# Altium schematic symbol library connectors.SchLib: 74 symbols
Pins are listed as number, name and electrical type; pins without a type are passive.

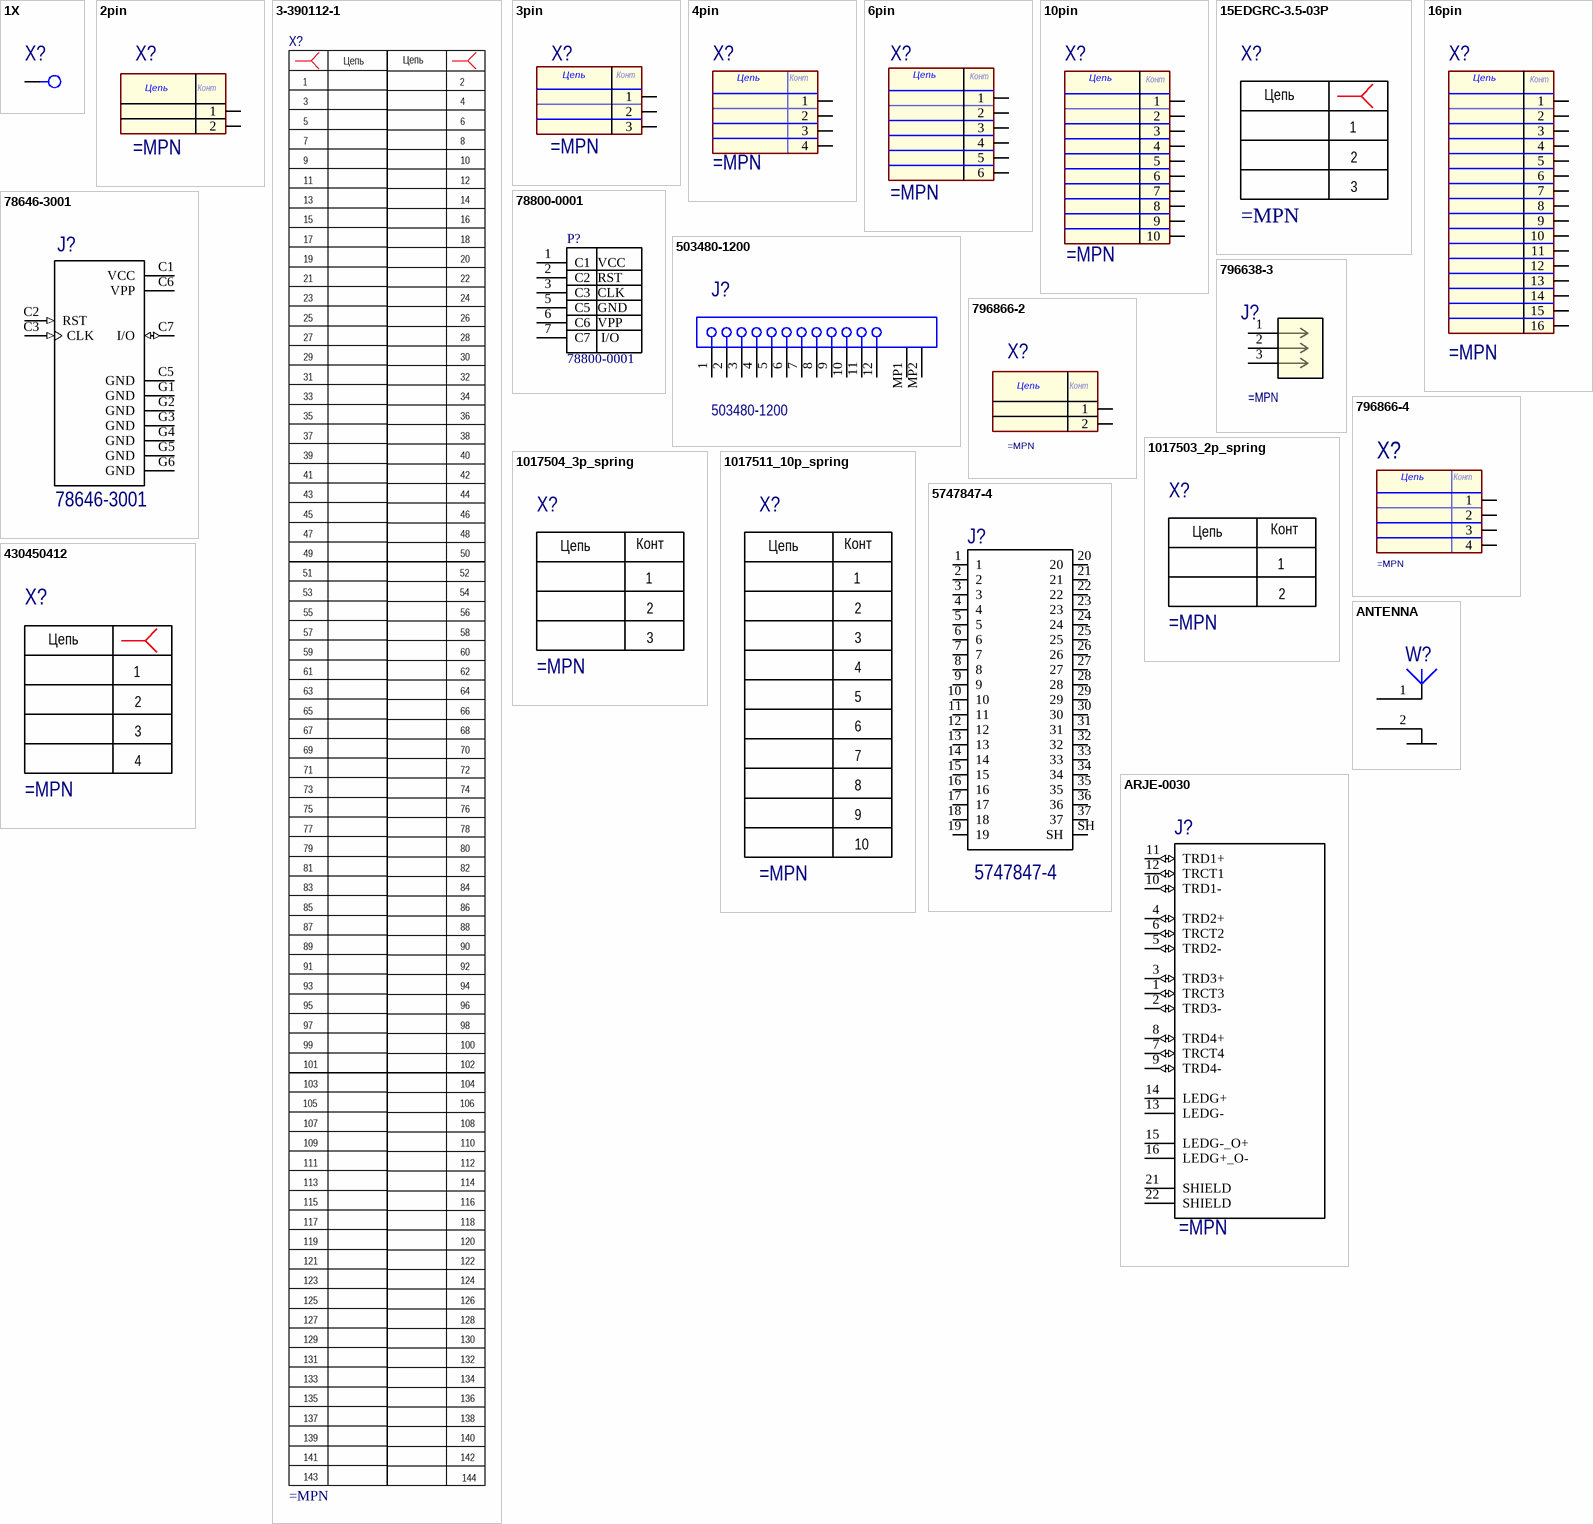
[diagram p0: symbols 1X to ARJE-0030]

## 1X
designator X?
pins: 1

## 2pin
designator X?
pins: 1, 2
1 alternate drawing of the same symbol
text: Цепь; Конт

## 3-390112-1
designator X?
pins: 1, 1, 1, 1, 1, 2 "1", 2 "1", 3 "1", 3 "1", 4 "1", 5 "1", 6 "1", 7 "1", 8 "1", 9 "1", 10 "1", 11 "1", 12 "1", 13 "1", 14 "1", 15 "1", 16 "1", 17 "1", 18 "1", 19 "1", 20 "1", 21 "1", 22 "1", 23 "1", 24 "1", 25 "1", 26 "1", 27 "1", 28 "1", 29 "1", 30 "1", 31 "1", 32 "1", 33 "1", 34 "1", 35 "1", 36 "1", 37 "1", 38 "1", 39 "1", 40 "1", 41 "1", 42 "1", 43 "1", 44 "1", 45 "1", 46 "1", 47 "1", 48 "1", 49 "1", 50 "1", 51 "1", 52 "1", 53 "1", 54 "1", 55 "1", 56 "1", 57 "1", 58 "1", 59 "1", 60 "1", 61 "1", 62 "1", 63 "1", 64 "1", 65 "1", 66 "1", 67 "1", 68 "1", 69 "1", 70 "1", 71 "1", 72 "1", 73 "1", 74 "1", 75 "1", 76 "1", 77 "1", 78 "1", 79 "1", 80 "1", 81 "1", 82 "1", 83 "1", 84 "1", 85 "1", 86 "1", 87 "1", 88 "1", 89 "1", 90 "1", 91 "1", 92 "1", 93 "1", 94 "1", 95 "1", 96 "1", 97 "1", 98 "1", 99 "1", 100 "1", 101 "1", 102 "1", 103 "1", 104 "1", 105 "1", 106 "1", 107 "1", 108 "1", 109 "1", 110 "1", 111 "1", 112 "1", 113 "1", 114 "1", 115 "1", 116 "1", 117 "1", 118 "1", 119 "1", 120 "1", 121 "1", 122 "1", 123 "1", 124 "1", 125 "1", 126 "1", 127 "1", 128 "1", 129 "1", 130 "1", 131 "1", 132 "1", 133 "1", 134 "1", 135 "1", 136 "1", 137 "1", 138 "1", 139 "1", 140 "1", 141 "1", 142 "1", 143 "1", 144 "1"
text: Цепь; 5 /; 6 /; 11 /; 12 /; 13 /; 14 /; 15 /; 16 /; 17 /; 18 /; 19 /; 20 /; 21 /; 22 /; 23 /; 24 /; 25 /; 26 /; 27 /; 28 /; 29 /; 30 /; 31 /; 32 /; 33 /; 34 /; 35 /; 36 /; 37 /; 38 /; 39 /; 40 /; 41 /; 42 /; 43 /; 44 /; 45 /; 46 /; 47 /; 48 /; 49 /; 50 /; 57 /; 58 /; 63 /; 64 /; 65 /; 66 /; 67 /; 68 /; 69 /; 70 /; 71 /; 72 /; 73 /; 74 /; 75 /; 76 /; 77 /; 78 /; 79 /; 80 /; 81 /; 82 /; 83 /; 84 /; 85 /; 86 /; 87 /; 88 /; 89 /; 90 /; 91 /; 92 /; 93 /; 94 /; 95 /; 96 /; 97 /; 98 /; 99 /; 100 /; 101 /; 102 /; 103 /; 104 /; 109 /; 110 /; 115 /; 116 /; 117 /; 118 /; 119 /; 120 /; 121 /; 122 /; 123 /; 124 /; 125 /; 126 /; 127 /; 128 /; 129 /; 130 /; 131 /; 132 /; 133 /; 134 /; 135 /; 136 /; 137 /; 138 /; 139 /; 140 /; 141 /; 142 /; 143 /; 144 /

## 3pin
designator X?
pins: 1, 2, 3
1 alternate drawing of the same symbol
text: Цепь; Конт

## 4pin
designator X?
pins: 1, 2, 3, 4
1 alternate drawing of the same symbol
text: Цепь; Конт

## 6pin
designator X?
pins: 1, 2, 3, 4, 5, 6
1 alternate drawing of the same symbol
text: Цепь; Конт

## 10pin
designator X?
pins: 1, 2, 3, 4, 5, 6, 7, 8, 9, 10
1 alternate drawing of the same symbol
text: Цепь; Конт

## 15EDGRC-3.5-03P
designator X?
pins: 1, 2 "1", 3 "1"
text: Цепь

## 16pin
designator X?
pins: 1, 2, 3, 4, 5, 6, 7, 8, 9, 10, 11, 12, 13, 14, 15, 16
1 alternate drawing of the same symbol
text: Цепь; Конт

## 78646-3001
designator J?
Conn Micro SIM Card SKT 6 POS 2.54mm Solder RA SMD 0.5A/Contact Embossed T/R
pins: C1 VCC (power), C2 RST (in), C3 CLK (in), C5 GND (power), C6 VPP (power), C7 I/O (io), G1 GND (power), G2 GND (power), G3 GND (power), G4 GND (power), G5 GND (power), G6 GND (power)

## 78800-0001
designator P?
1.40mm Height Hinged-style micro-SIM Card Socket without Detect Switch, Surface Mount, 6 Circuits, Halogen-Free, Lead...
pins: 1 C1  VCC, 2 C2  RST, 3 C3  CLK, 5 C5  GND, 6 C6  VPP, 7 C7   I/O

## 503480-1200
designator J?
0.5 mm Pitch Easy-On(TM) BackFlip(TM) Type FPC Connector, 1.0 mm Mated Height, Right Angle, SMT, Dual Contact, 12 Circuits, -40 to 85 degC, ELV and RoHS Compliant, Tape and Reel; ComponentLink1Description: Manufacturer URL; ComponentLink1URL: http://www.molex.com/molex/index.jsp; ComponentLink2Description: Datasheet; ComponentLink2URL: http://www.molex.com/webdocs/datasheets/pdf/en-us/5034801200_FFC_FPC_CONNECTORS.pdf; ComponentLink3Description: Package Specification; ComponentLink3URL: http://www.molex.com/pdm_docs/sd/5034801200_sd.pdf
pins: 1, 2, 3, 4, 5, 6, 7, 8, 9, 10, 11, 12, MP1, MP2

## 796638-3
designator J?
Imported
pins: 1, 2, 3

## 796866-2
designator X?
pins: 1, 2
1 alternate drawing of the same symbol
text: Цепь; Конт

## 796866-4
designator X?
pins: 1, 2, 3, 4
1 alternate drawing of the same symbol
text: Цепь; Конт

## 1017503_2p_spring
designator X?
pins: 1, 2 "1"
text: Цепь; Конт

## 1017504_3p_spring
designator X?
pins: 1, 2 "1", 3 "1"
text: Цепь; Конт

## 1017511_10p_spring
designator X?
pins: 1, 1, 1, 1, 2 "1", 2 "1", 2 "1", 2 "1", 3 "1", 3 "1", 3 "1", 3 "1"
text: Цепь; Конт; 4; 5; 6; 7; 8; 9; 10

## 5747847-4
designator J?
Conn D-Subminiature SKT 37 POS 2.76mm Solder RA Thru-Hole 37 Terminal 1 Port
pins: 1, 2, 3, 4, 5, 6, 7, 8, 9, 10, 11, 12, 13, 14, 15, 16, 17, 18, 19, 20, 21, 22, 23, 24, 25, 26, 27, 28, 29, 30, 31, 32, 33, 34, 35, 36, 37, SH

## 430450412
designator X?
pins: 1, 2 "1", 3 "1", 4 "1"
text: Цепь; 3 /

## ANTENNA
designator W?
pins: 1, 2

## ARJE-0030
designator J?
Conn RJ-45 F 8 POS Solder RA Thru-Hole 18 Terminal 1 Port Tray
pins: 1 TRCT3 (io), 2 TRD3- (io), 3 TRD3+ (io), 4 TRD2+ (io), 5 TRD2- (io), 6 TRCT2 (io), 7 TRCT4 (io), 8 TRD4+ (io), 9 TRD4- (io), 10 TRD1- (io), 11 TRD1+ (io), 12 TRCT1 (io), 13 LEDG-, 14 LEDG+, 15 LEDG-_O+, 16 LEDG+_O-, 21 SHIELD, 22 SHIELD

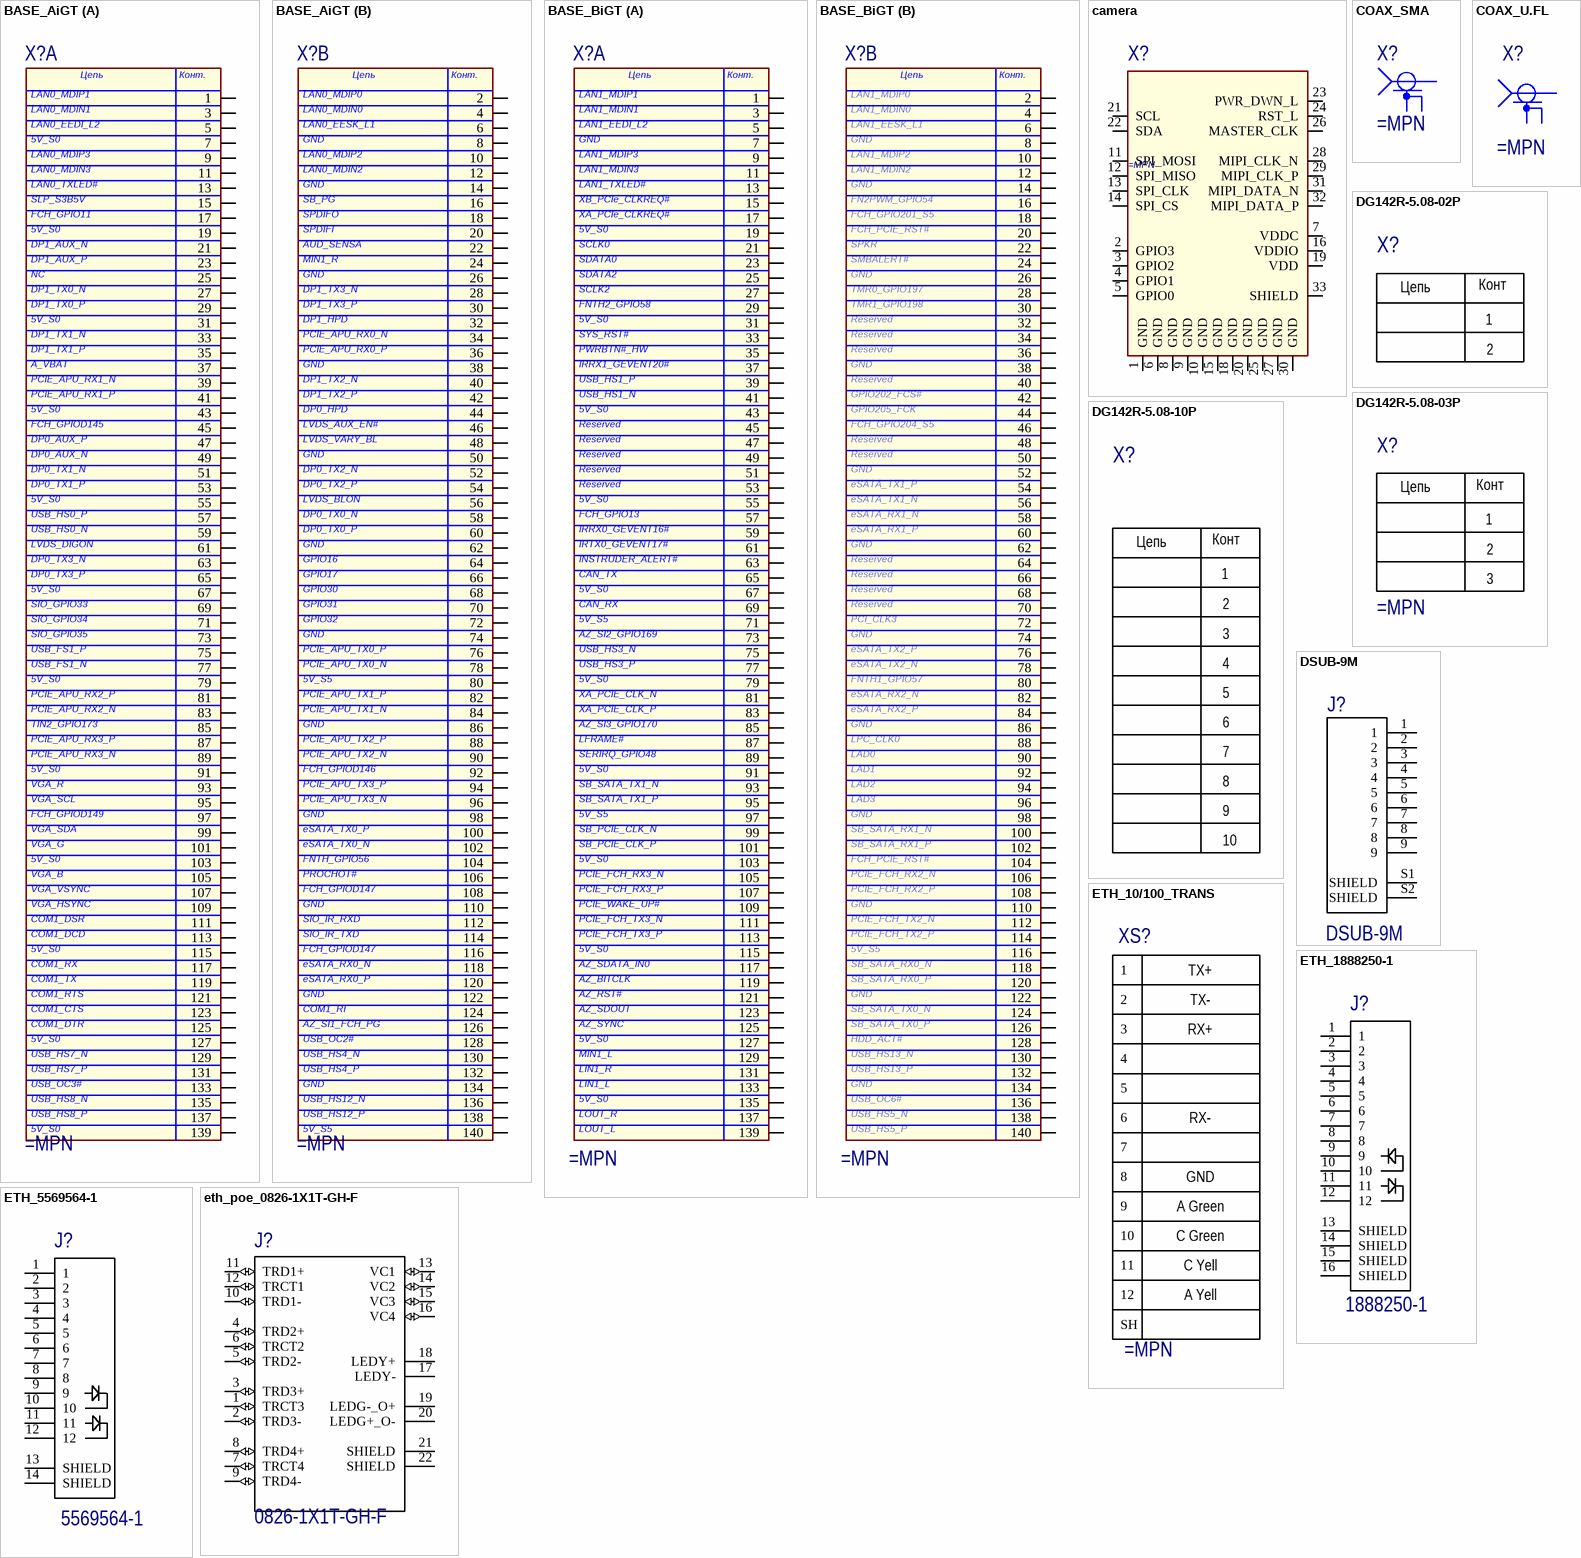
[diagram p1: symbols BASE_AiGT to eth_poe_0826-1X1T-GH-F]

## BASE_AiGT
designator X?
part A pins: 1, 3, 5, 7, 9, 11, 13, 15, 17, 19, 21, 23, 25, 27, 29, 31, 33, 35, 37, 39, 41, 43, 45, 47, 49, 51, 53, 55, 57, 59, 61, 63, 65, 67, 69, 71, 73, 75, 77, 79, 81, 83, 85, 87, 89, 91, 93, 95, 97, 99, 101, 103, 105, 107, 109, 111, 113, 115, 117, 119, 121, 123, 125, 127, 129, 131, 133, 135, 137, 139
part B pins: 2, 4, 6, 8, 10, 12, 14, 16, 18, 20, 22, 24, 26, 28, 30, 32, 34, 36, 38, 40, 42, 44, 46, 48, 50, 52, 54, 56, 58, 60, 62, 64, 66, 68, 70, 72, 74, 76, 78, 80, 82, 84, 86, 88, 90, 92, 94, 96, 98, 100, 102, 104, 106, 108, 110, 112, 114, 116, 118, 120, 122, 124, 126, 128, 130, 132, 134, 136, 138, 140
part A text: Цепь; Конт.; LAN0_MDIP1; LAN0_MDIN1; LAN0_EEDI_L2; 5V_S0; LAN0_MDIP3; LAN0_MDIN3; LAN0_TXLED#; SLP_S3B5V; FCH_GPIO11; DP1_AUX_N; DP1_AUX_P; NC; DP1_TX0_N; DP1_TX0_P; DP1_TX1_N; DP1_TX1_P; A_VBAT; PCIE_APU_RX1_N; PCIE_APU_RX1_P; FCH_GPIOD145; DP0_AUX_P; DP0_AUX_N; DP0_TX1_N; DP0_TX1_P; USB_HS0_P; USB_HS0_N; LVDS_DIGON; DP0_TX3_N; DP0_TX3_P; SIO_GPIO33; SIO_GPIO34; SIO_GPIO35; USB_FS1_P; USB_FS1_N; PCIE_APU_RX2_P; PCIE_APU_RX2_N; TIN2_GPIO173; PCIE_APU_RX3_P; PCIE_APU_RX3_N; VGA_R; VGA_SCL; FCH_GPIOD149; VGA_SDA; VGA_G; VGA_B; VGA_VSYNC; VGA_HSYNC; COM1_DSR; COM1_DCD; COM1_RX; COM1_TX; COM1_RTS; COM1_CTS; COM1_DTR; USB_HS7_N; USB_HS7_P; USB_OC3#; USB_HS8_N; USB_HS8_P
part B text: Цепь; Конт.; LAN0_MDIP0; LAN0_MDIN0; LAN0_EESK_L1; GND; LAN0_MDIP2; LAN0_MDIN2; SB_PG; SPDIFO; SPDIFI; AUD_SENSA; MIN1_R; DP1_TX3_N; DP1_TX3_P; DP1_HPD; PCIE_APU_RX0_N; PCIE_APU_RX0_P; DP1_TX2_N; DP1_TX2_P; DP0_HPD; LVDS_AUX_EN#; LVDS_VARY_BL; DP0_TX2_N; DP0_TX2_P; LVDS_BLON; DP0_TX0_N; DP0_TX0_P; GPIO16; GPIO17; GPIO30; GPIO31; GPIO32; PCIE_APU_TX0_P; PCIE_APU_TX0_N; 5V_S5; PCIE_APU_TX1_P; PCIE_APU_TX1_N; PCIE_APU_TX2_P; PCIE_APU_TX2_N; FCH_GPIOD146; PCIE_APU_TX3_P; PCIE_APU_TX3_N; eSATA_TX0_P; eSATA_TX0_N; FNTH_GPIO56; PROCHOT#; FCH_GPIOD147; SIO_IR_RXD; SIO_IR_TXD; eSATA_RX0_N; eSATA_RX0_P; COM1_RI; AZ_SI1_FCH_PG; USB_OC2#; USB_HS4_N; USB_HS4_P; USB_HS12_N; USB_HS12_P

## BASE_BiGT
designator X?
part A pins: 1, 3, 5, 7, 9, 11, 13, 15, 17, 19, 21, 23, 25, 27, 29, 31, 33, 35, 37, 39, 41, 43, 45, 47, 49, 51, 53, 55, 57, 59, 61, 63, 65, 67, 69, 71, 73, 75, 77, 79, 81, 83, 85, 87, 89, 91, 93, 95, 97, 99, 101, 103, 105, 107, 109, 111, 113, 115, 117, 119, 121, 123, 125, 127, 129, 131, 133, 135, 137, 139
part B pins: 2, 4, 6, 8, 10, 12, 14, 16, 18, 20, 22, 24, 26, 28, 30, 32, 34, 36, 38, 40, 42, 44, 46, 48, 50, 52, 54, 56, 58, 60, 62, 64, 66, 68, 70, 72, 74, 76, 78, 80, 82, 84, 86, 88, 90, 92, 94, 96, 98, 100, 102, 104, 106, 108, 110, 112, 114, 116, 118, 120, 122, 124, 126, 128, 130, 132, 134, 136, 138, 140
part A text: Цепь; Конт.; LAN1_MDIP1; LAN1_MDIN1; LAN1_EEDI_L2; GND; LAN1_MDIP3; LAN1_MDIN3; LAN1_TXLED#; XB_PCIe_CLKREQ#; XA_PCIe_CLKREQ#; 5V_S0; SCLK0; SDATA0; SDATA2; SCLK2; FNTH2_GPIO58; SYS_RST#; PWRBTN#_HW; IRRX1_GEVENT20#; USB_HS1_P; USB_HS1_N; Reserved; FCH_GPIO13; IRRX0_GEVENT16#; IRTX0_GEVENT17#; INSTRUDER_ALERT#; CAN_TX; CAN_RX; 5V_S5; AZ_SI2_GPIO169; USB_HS3_N; USB_HS3_P; XA_PCIE_CLK_N; XA_PCIE_CLK_P; AZ_SI3_GPIO170; LFRAME#; SERIRQ_GPIO48; SB_SATA_TX1_N; SB_SATA_TX1_P; SB_PCIE_CLK_N; SB_PCIE_CLK_P; PCIE_FCH_RX3_N; PCIE_FCH_RX3_P; PCIE_WAKE_UP#; PCIE_FCH_TX3_N; PCIE_FCH_TX3_P; AZ_SDATA_IN0; AZ_BITCLK; AZ_RST#; AZ_SDOUT; AZ_SYNC; MIN1_L; LIN1_R; LIN1_L; LOUT_R; LOUT_L
part B text: Цепь; Конт.; LAN1_MDIP0; LAN1_MDIN0; LAN1_EESK_L1; GND; LAN1_MDIP2; LAN1_MDIN2; FN2PWM_GPIO54; FCH_GPIO201_S5; FCH_PCIE_RST#; SPKR; SMBALERT#; TMR0_GPIO197; TMR1_GPIO198; Reserved; GPIO202_FCS#; GPIO205_FCK; FCH_GPIO204_S5; eSATA_TX1_P; eSATA_TX1_N; eSATA_RX1_N; eSATA_RX1_P; PCI_CLK3; eSATA_TX2_P; eSATA_TX2_N; FNTH1_GPIO57; eSATA_RX2_N; eSATA_RX2_P; LPC_CLK0; LAD0; LAD1; LAD2; LAD3; SB_SATA_RX1_N; SB_SATA_RX1_P; PCIE_FCH_RX2_N; PCIE_FCH_RX2_P; PCIE_FCH_TX2_N; PCIE_FCH_TX2_P; 5V_S5; SB_SATA_RX0_N; SB_SATA_RX0_P; SB_SATA_TX0_N; SB_SATA_TX0_P; HDD_ACT#; USB_HS13_N; USB_HS13_P; USB_OC6#; USB_HS5_N; USB_HS5_P

## camera
designator X?
molex 1050281001
pins: 1 GND, 2 GPIO3, 3 GPIO2, 4 GPIO1, 5 GPIO0, 6 GND, 7 VDDC, 8 GND, 9 GND, 10 GND, 11 SPI_MOSI, 12 SPI_MISO, 13 SPI_CLK, 14 SPI_CS, 15 GND, 16 VDDIO, 18 GND, 19 VDD, 20 GND, 21 SCL, 22 SDA, 23 PWR_DWN_L, 24 RST_L, 25 GND, 26 MASTER_CLK, 27 GND, 28 MIPI_CLK_N, 29 MIPI_CLK_P, 30 GND, 31 MIPI_DATA_N, 32 MIPI_DATA_P, 33 SHIELD
1 alternate drawing of the same symbol

## COAX_SMA
designator X?
pins: 1, 2, 3

## COAX_U.FL
designator X?
pins: 1, 2, 3

## DG142R-5.08-02P
designator X?
pins: 1, 2 "1"
text: Цепь; Конт

## DG142R-5.08-03P
designator X?
pins: 1, 2 "1", 3 "1"
text: Цепь; Конт

## DG142R-5.08-10P
designator X?
pins: 1, 2 "1", 3 "1"
text: Цепь; Конт; 4; 5; 6; 7; 8; 9; 10

## DSUB-9M
designator J?
Connector D-Subminiature .318 Inch Right Angle DB9 Male with Out Jack Screw Tin Contacts
pins: 1, 2, 3, 4, 5, 6, 7, 8, 9, S1 SHIELD, S2 SHIELD

## ETH_10/100_TRANS
designator XS?
pins: 1, 2, 3, 4, 5, 6, 7, 8, 9, 10, 11, 12, SH
text: TX+; TX-; RX+; RX-; GND; A Green; C Green; C Yell; A Yell

## ETH_1888250-1
designator J?, comment 1888250-1
Low Profile,RJ45,1x1,GRN/YEL
pins: 1, 2, 3, 4, 5, 6, 7, 8, 9, 10, 11, 12, 13 SHIELD, 14 SHIELD, 15 SHIELD, 16 SHIELD

## ETH_5569564-1
designator J?, comment 5569564-1
Low Profile,RJ45,1x1,GRN/YEL
pins: 1, 2, 3, 4, 5, 6, 7, 8, 9, 10, 11, 12, 13 SHIELD, 14 SHIELD

## eth_poe_0826-1X1T-GH-F
designator J?, comment 0826-1X1T-GH-F
Conn RJ-45 F 8 POS Solder RA Thru-Hole 18 Terminal 1 Port Tray
pins: 1 TRCT3 (io), 2 TRD3- (io), 3 TRD3+ (io), 4 TRD2+ (io), 5 TRD2- (io), 6 TRCT2 (io), 7 TRCT4 (io), 8 TRD4+ (io), 9 TRD4- (io), 10 TRD1- (io), 11 TRD1+ (io), 12 TRCT1 (io), 13 VC1 (io), 14 VC2 (io), 15 VC3 (io), 16 VC4 (io), 17 LEDY-, 18 LEDY+, 19 LEDG-_O+, 20 LEDG+_O-, 21 SHIELD, 22 SHIELD

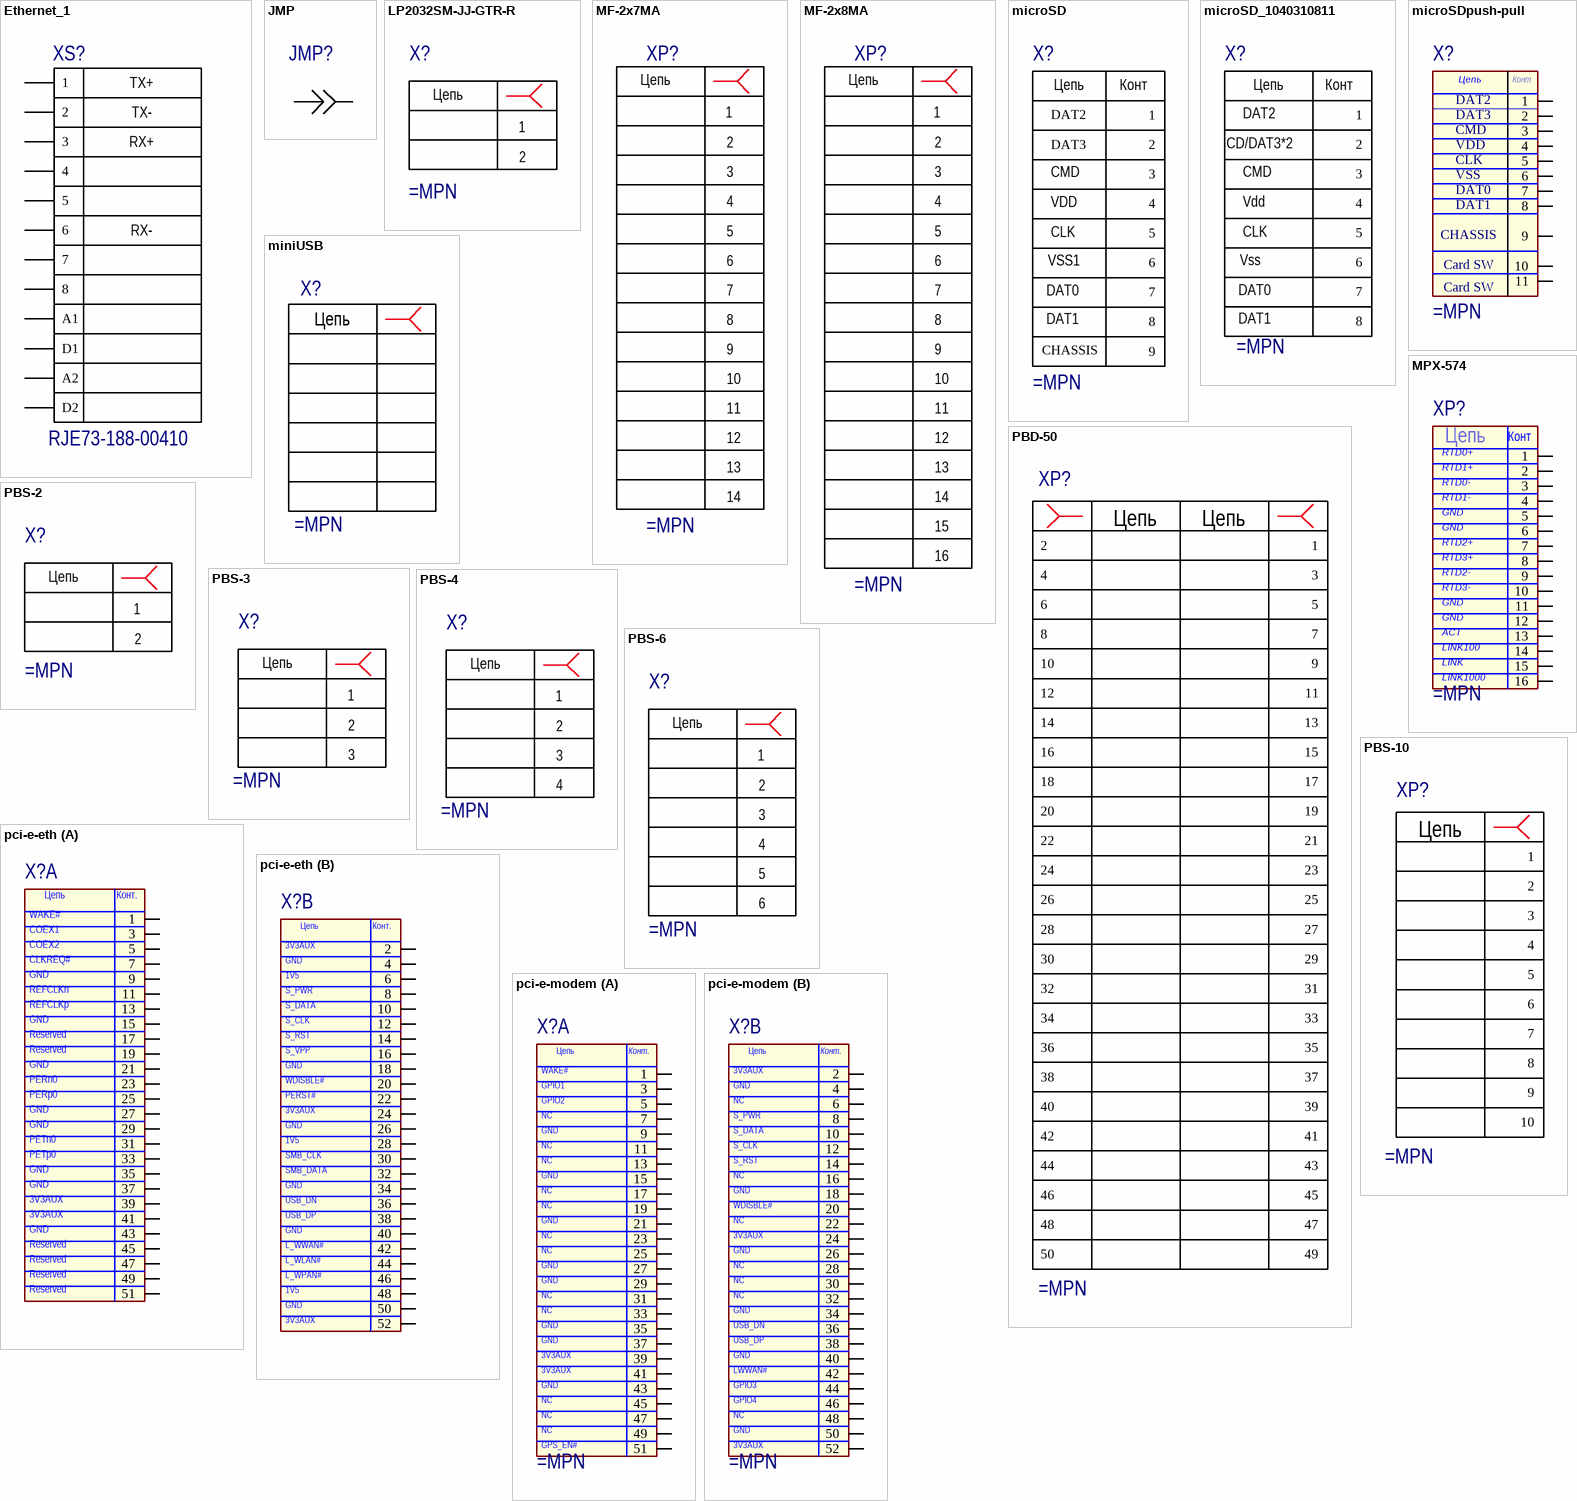
[diagram p2: symbols Ethernet_1 to pci-e-modem]

## Ethernet_1
designator XS?, comment RJE73-188-00410
pins: 1, 2, 3, 4, 5, 6, 7, 8, A1, A2, D1, D2
text: TX+; TX-; RX+; RX-

## JMP
designator JMP?
JMP SMD
pins: 1, 2 "1"

## LP2032SM-JJ-GTR-R
designator X?
pins: 1, 2 "1"
text: Цепь

## MF-2x7MА
designator XP?
pins: 1, 2 "1", 3 "1", 4 "1", 5 "1", 6 "1", 7 "1", 8 "1", 9 "1", 10 "1", 11 "1", 12 "1", 13 "1", 14 "1"
text: Цепь; 3 /; 6 /; 7 /; 8 /; 9 /; 10 /; 11 /; 12 /; 13 /; 14 /

## MF-2x8MA
designator XP?
pins: 1, 2 "1", 3 "1", 4 "1", 5 "1", 6 "1", 7 "1", 8 "1", 9 "1", 10 "1", 11 "1", 12 "1", 13 "1", 14 "1", 15 "1", 16 "1"
text: Цепь; 3 /; 6 /; 7 /; 8 /; 9 /; 10 /; 11 /; 12 /; 13 /; 14 /; 15 /; 16 /

## microSD
designator X?
pins: 1, 2, 3, 4, 5, 6, 7, 8, 9
1 alternate drawing of the same symbol
text: Цепь; Конт; DAT2; DAT3; CMD; VDD; CLK; VSS1; DAT0; DAT1; CHASSIS

## microSD_1040310811
designator X?
pins: T1 1, T2 2, T3 3, T4 4, T5 5, T6 6, T7 7, T8 8
1 alternate drawing of the same symbol
text: Цепь; Конт; DAT2; CD/DAT3*2; CMD; Vdd; CLK; Vss; DAT0; DAT1

## microSDpush-pull
designator X?
pins: 1, 2, 3, 4, 5, 6, 7, 8, 9, 10, 11
1 alternate drawing of the same symbol
text: Цепь; Конт; DAT2; DAT3; CMD; VDD; CLK; VSS; DAT0; DAT1; CHASSIS; Card SW

## miniUSB
designator X?
pins: 1 VBUS, 2 DATA -, 3 DATA +, 4 NC/GND "GND", 5 GND, 6 Shield
text: Цепь

## MPX-574
designator XP?
pins: 1, 2, 3, 4, 5, 6, 7, 8, 9, 10, 11, 12, 13, 14, 15, 16
1 alternate drawing of the same symbol
text: Цепь; Конт; RTD0+; RTD1+; RTD0-; RTD1-; GND; RTD2+; RTD3+; RTD2-; RTD3-; ACT; LINK100; LINK; LINK1000

## PBD-50
designator XP?
pins: 1, 2, 3, 4, 5, 6, 7, 8, 9, 10, 11, 12, 13, 14, 15, 16, 17, 18, 19, 20, 21, 22, 23, 24, 25, 26, 27, 28, 29, 30, 31, 32, 33, 34, 35, 36, 37, 38, 39, 40, 41, 42, 43, 44, 45, 46, 47, 48, 49, 50
text: Цепь

## PBS-2
designator X?
pins: 1, 2 "1"
text: Цепь

## PBS-3
designator X?
pins: 1, 2 "1", 3 "1"
text: Цепь

## PBS-4
designator X?
pins: 1, 2 "1", 3 "1", 4 "1"
text: Цепь; 3 /

## PBS-6
designator X?
pins: 1, 2 "1", 3 "1", 4 "1", 5 "1", 6 "1"
text: Цепь; 3 /; 6 /

## PBS-10
designator XP?
pins: 1, 2, 3, 4, 5, 6, 7, 8, 9, 10
text: Цепь

## pci-e-eth
designator X?
part A pins: 1, 3, 5, 7, 9, 11, 13, 15, 17, 19, 21, 23, 25, 27, 29, 31, 33, 35, 37, 39, 41, 43, 45, 47, 49, 51
part B pins: 2, 4, 6, 8, 10, 12, 14, 16, 18, 20, 22, 24, 26, 28, 30, 32, 34, 36, 38, 40, 42, 44, 46, 48, 50, 52, 53, 54
part A text: Цепь; Конт.; WAKE#; COEX1; COEX2; CLKREQ#; GND; REFCLKn; REFCLKp; Reserved; PERn0; PERp0; PETn0; PETp0; 3V3AUX
part B text: Цепь; Конт.; 3V3AUX; GND; 1V5; S_PWR; S_DATA; S_CLK; S_RST; S_VPP; WDISBLE#; PERST#; SMB_CLK; SMB_DATA; USB_DN; USB_DP; L_WWAN#; L_WLAN#; L_WPAN#

## pci-e-modem
designator X?
part A pins: 1, 3, 5, 7, 9, 11, 13, 15, 17, 19, 21, 23, 25, 27, 29, 31, 33, 35, 37, 39, 41, 43, 45, 47, 49, 51
part B pins: 2, 4, 6, 8, 10, 12, 14, 16, 18, 20, 22, 24, 26, 28, 30, 32, 34, 36, 38, 40, 42, 44, 46, 48, 50, 52, 53, 54
part A text: Цепь; Конт.; WAKE#; GPIO1; GPIO2; NC; GND; 3V3AUX; GPS_EN#
part B text: Цепь; Конт.; 3V3AUX; GND; NC; S_PWR; S_DATA; S_CLK; S_RST; WDISBLE#; USB_DN; USB_DP; LWWAN#; GPIO3; GPIO4

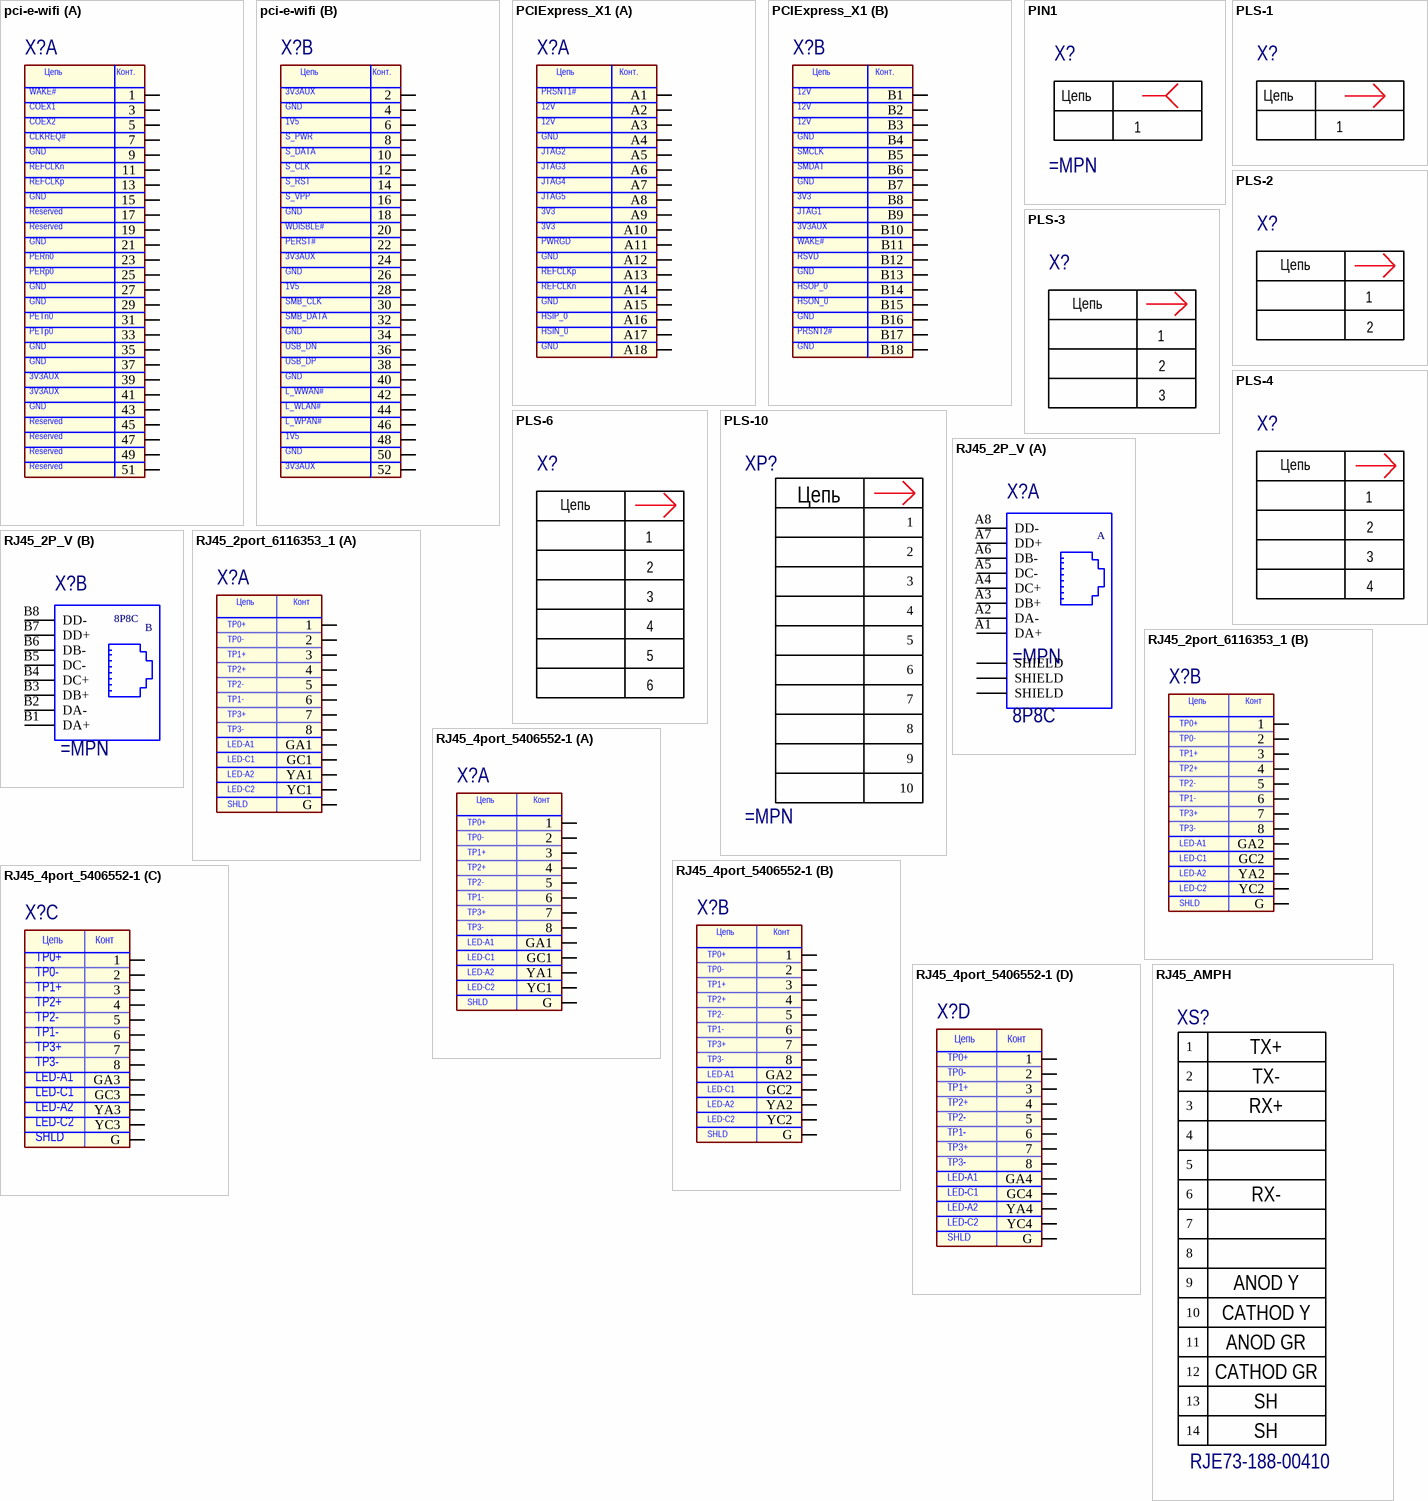
[diagram p3: symbols pci-e-wifi to RJ45_AMPH]

## pci-e-wifi
designator X?
part A pins: 1, 3, 5, 7, 9, 11, 13, 15, 17, 19, 21, 23, 25, 27, 29, 31, 33, 35, 37, 39, 41, 43, 45, 47, 49, 51
part B pins: 2, 4, 6, 8, 10, 12, 14, 16, 18, 20, 22, 24, 26, 28, 30, 32, 34, 36, 38, 40, 42, 44, 46, 48, 50, 52, 53, 54
part A text: Цепь; Конт.; WAKE#; COEX1; COEX2; CLKREQ#; GND; REFCLKn; REFCLKp; Reserved; PERn0; PERp0; PETn0; PETp0; 3V3AUX
part B text: Цепь; Конт.; 3V3AUX; GND; 1V5; S_PWR; S_DATA; S_CLK; S_RST; S_VPP; WDISBLE#; PERST#; SMB_CLK; SMB_DATA; USB_DN; USB_DP; L_WWAN#; L_WLAN#; L_WPAN#

## PCIExpress_X1
designator X?
P/N: 182K14000S
part A pins: A1, A2, A3, A4, A5, A6, A7, A8, A9, A10, A11, A12, A13, A14, A15, A16, A17, A18
part B pins: B1, B2, B3, B4, B5, B6, B7, B8, B9, B10, B11, B12, B13, B14, B15, B16, B17, B18
part A text: Цепь; Конт.; PRSNT1#; 12V; GND; JTAG2; JTAG3; JTAG4; JTAG5; 3V3; PWRGD; REFCLKp; REFCLKn; HSIP_0; HSIN_0
part B text: Цепь; Конт.; 12V; GND; SMCLK; SMDAT; 3V3; JTAG1; 3V3AUX; WAKE#; RSVD; HSOP_0; HSON_0; PRSNT2#

## PIN1
designator X?
pins: 1
text: Цепь

## PLS-1
designator X?
pins: 1
text: Цепь

## PLS-2
designator X?
pins: 1, 2 "1"
text: Цепь

## PLS-3
designator X?
pins: 1, 2 "1", 3 "1"
text: Цепь

## PLS-4
designator X?
pins: 1, 2 "1", 3 "1", 4 "1"
text: Цепь; 3 /

## PLS-6
designator X?
pins: 1, 2 "1", 3 "1", 4 "1", 5 "1", 6 "1"
text: Цепь; 3 /; 6 /

## PLS-10
designator XP?
pins: 1, 2, 3, 4, 5, 6, 7, 8, 9, 10
text: Цепь

## RJ45_2P_V
designator X?
part A pins: A1 DA+, A2 DA-, A3 DB+, A4 DC+, A5 DC-, A6 DB-, A7 DD+, A8 DD-, Z SHIELD, Z SHIELD, Z SHIELD
part B pins: B1 DA+, B2 DA-, B3 DB+, B4 DC+, B5 DC-, B6 DB-, B7 DD+, B8 DD-
part A text: A; 8P8C
part B text: 8P8C; B

## RJ45_2port_6116353_1
designator X?
part A pins: 1_1 1, 1_2 2, 1_3 3, 1_4 4, 1_5 5, 1_6 6, 1_7 7, 1_8 8, G, GA1, GC1, YA1, YC1
part B pins: 2_1 1, 2_2 2, 2_3 3, 2_4 4, 2_5 5, 2_6 6, 2_7 7, 2_8 8, G, GA2, GC2, YA2, YC2
1 alternate drawing of the same symbol
part A text: Цепь; Конт; TP0+; TP0-; TP1+; TP2+; TP2-; TP1-; TP3+; TP3-; LED-A1; LED-C1; LED-A2; LED-C2; SHLD
part B text: Цепь; Конт; TP0+; TP0-; TP1+; TP2+; TP2-; TP1-; TP3+; TP3-; LED-A1; LED-C1; LED-A2; LED-C2; SHLD

## RJ45_4port_5406552-1
designator X?
part A pins: 1_1 1, 1_2 2, 1_3 3, 1_4 4, 1_5 5, 1_6 6, 1_7 7, 1_8 8, G, GA1, GC1, YA1, YC1
part B pins: 2_1 1, 2_2 2, 2_3 3, 2_4 4, 2_5 5, 2_6 6, 2_7 7, 2_8 8, G, GA2, GC2, YA2, YC2
part C pins: 3_1 1, 3_2 2, 3_3 3, 3_4 4, 3_5 5, 3_6 6, 3_7 7, 3_8 8, G, GA3, GC3, YA3, YC3
part D pins: 4_1 1, 4_2 2, 4_3 3, 4_4 4, 4_5 5, 4_6 6, 4_7 7, 4_8 8, G, GA4, GC4, YA4, YC4
1 alternate drawing of the same symbol
part A text: Цепь; Конт; TP0+; TP0-; TP1+; TP2+; TP2-; TP1-; TP3+; TP3-; LED-A1; LED-C1; LED-A2; LED-C2; SHLD
part B text: Цепь; Конт; TP0+; TP0-; TP1+; TP2+; TP2-; TP1-; TP3+; TP3-; LED-A1; LED-C1; LED-A2; LED-C2; SHLD
part C text: Цепь; Конт; TP0+; TP0-; TP1+; TP2+; TP2-; TP1-; TP3+; TP3-; LED-A1; LED-C1; LED-A2; LED-C2; SHLD
part D text: Цепь; Конт; TP0+; TP0-; TP1+; TP2+; TP2-; TP1-; TP3+; TP3-; LED-A1; LED-C1; LED-A2; LED-C2; SHLD

## RJ45_AMPH
designator XS?, comment RJE73-188-00410
pins: 1, 2, 3, 4, 5, 6, 7, 8, 9, 10, 11, 12, 13, 14
text: TX+; TX-; RX+; RX-; ANOD Y; CATHOD Y; ANOD GR; CATHOD GR; SH

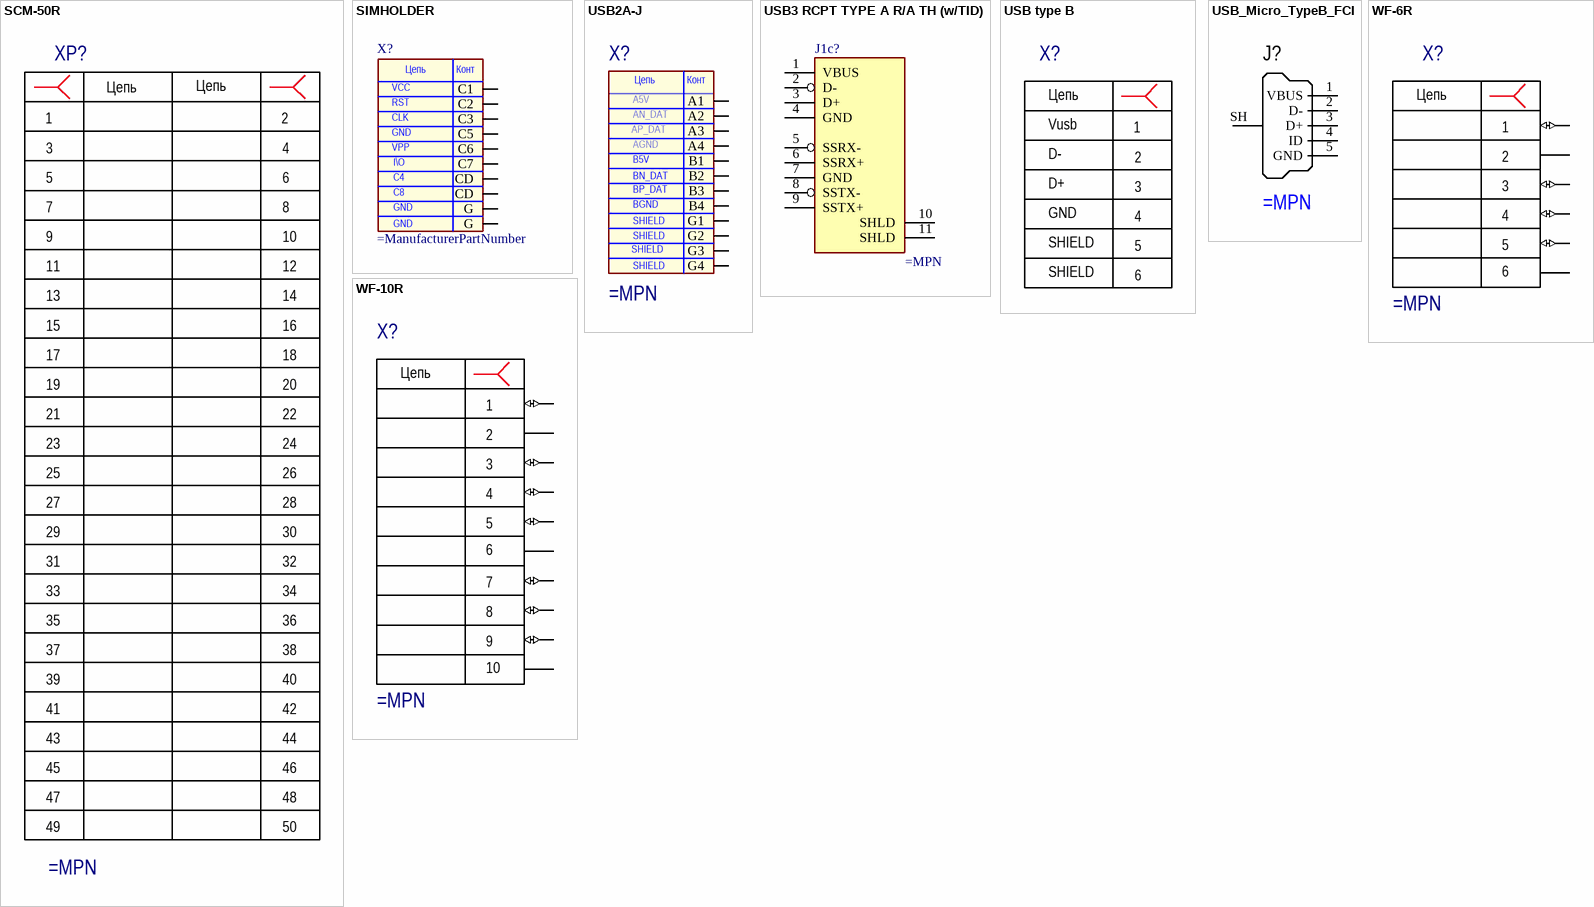
[diagram p4: symbols SCM-50R to WF-10R]

## SCM-50R
designator XP?
pins: 1, 1, 2 "1", 3 "1", 4 "1", 5 "1", 6 "1", 7 "1", 8 "1", 9 "1", 10 "1", 11 "1", 12 "1", 13 "1", 14 "1", 15 "1", 16 "1", 17 "1", 18 "1", 19 "1", 20 "1", 21 "1", 22 "1", 23 "1", 24 "1", 25 "1", 26 "1", 27 "1", 28 "1", 29 "1", 30 "1", 31 "1", 32 "1", 33 "1", 34 "1", 35 "1", 36 "1", 37 "1", 38 "1", 39 "1", 40 "1", 41 "1", 42 "1", 43 "1", 44 "1", 45 "1", 46 "1", 47 "1", 48 "1", 49 "1", 50 "1"
text: Цепь; 5 /; 6 /; 11 /; 12 /; 13 /; 14 /; 15 /; 16 /; 17 /; 18 /; 19 /; 20 /; 21 /; 22 /; 23 /; 24 /; 25 /; 26 /; 27 /; 28 /; 29 /; 30 /; 31 /; 32 /; 33 /; 34 /; 35 /; 36 /; 37 /; 38 /; 39 /; 40 /; 41 /; 42 /; 43 /; 44 /; 45 /; 46 /; 47 /; 48 /; 49 /; 50 /

## SIMHOLDER
designator X?
pins: 1 C1, 2 C2, 3 C3, 4 CD, 5 C5, 6 C6, 7 C7, 8 CD, 10 G, 11 G
1 alternate drawing of the same symbol
text: Цепь; Конт; VCC; RST; CLK; GND; VPP; I\O; C4; C8

## USB2A-J
designator X?
pins: A1, A2, A3, A4, B1, B2, B3, B4, G1, G2, G3, G4
1 alternate drawing of the same symbol
text: Цепь; Конт; A5V; AN_DAT; AP_DAT; AGND; B5V; BN_DAT; BP_DAT; BGND; SHIELD

## USB3 RCPT TYPE A R/A TH (w/TID)
designator J1c?
USB 3.0 RCPT TYPE A R/A TH (w/TID); ComponentLink1URL: http://media.digikey.com/pdf/Data%20Sheets/Amphenol%20PDFs/GSB311131HR%20Drawing.pdf; ComponentLink1Description: Datasheet Drawing
pins: 1 VBUS, 2 D-, 3 D+, 4 GND, 5 SSRX-, 6 SSRX+, 7 GND, 8 SSTX-, 9 SSTX+, 10 SHLD, 11 SHLD
2 alternate drawings of the same symbol

## USB type B
designator X?, comment 292304-5  (value not drawn)
USB B R/A RECP CONNECTOR,LEAD FREE; Number_of_Positions: 4; Centerline_Pitch: 2.5 mm[.098 in]; MF: TE Connectivity; Package: None; Product_Type: Connector; Price: None; EU_RoHS_Compliance: Compliant; TE_purchase_URL: https://www.te.com/usa-en/product-292304-5.html?te_bu=Cor&te_type=disp&te_campaign=seda_glo_cor-seda-global-disp-prtnr-fy19-seda-model-bom-cta_sma-317_1&elqCampaignId=32493; Availability: Unavailable; MPN: 292304-5; SnapEDA_Link: https://www.snapeda.com/parts/292304-5/TE%20Connectivity%20AMP%20Connectors/view-part/?ref=snap; Value: *
pins: 1, 2 "1", 3 "1", 4 "1", 5 "1", 6 "1"
text: Цепь; Vusb; D-; D+; 3 /; GND; SHIELD; 6 /

## USB_Micro_TypeB_FCI
designator J?
Connector SMD-THD USB Micro Type B middle mount
pins: 1 VBUS, 2 D-, 3 D+, 4 ID, 5 GND, SH Shell

## WF-6R
designator X?
DS1070-6 MR Вилка на плату 2.54мм угловая
pins: 1 (io), 2 (power), 3 (io), 4 (io), 5 (io), 6 (power)
text: Цепь

## WF-10R
designator X?
DS1070-10 MR Вилка на плату 2.54мм угловая
pins: 1 (io), 2 (power), 3 (io), 4 (io), 5 (io), 6 (power), 7 (io), 8 (io), 9 (io), 10 (power)
text: Цепь